# Altium integrated library Рез 1кОм.IntLib: 1 symbol
Pins are listed as number, name and electrical type; pins without a type are passive.

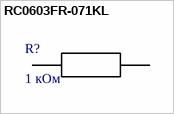
[diagram p0: symbol RC0603FR-071KL]

## RC0603FR-071KL
designator R?, comment 1 кОм
1 kOhms Â±1% 0.1W, 1/10W Chip Resistor 0603 (1608 Metric) Moisture Resistant Thick Film; Типоразмер: 0603; Мощность: 0.1 В; Точность: 1 %; Рабочее напряжение: 200 В; Сопротивление: 1 кОм
footprint RESC1607X60N
pins: 1, 2